# Altium footprint library 1053091202.PCBLIB: 1 footprints
Each footprint in its own frame and in the unit in brackets; x right, y up, seen from the top. Pads: shape width x height; smd on the part's side, far side on the other; paste and mask are expansions set on the pad; w line width, h text height; cw(c..) or ccw(c..) is an arc to the next point about the centre after c.
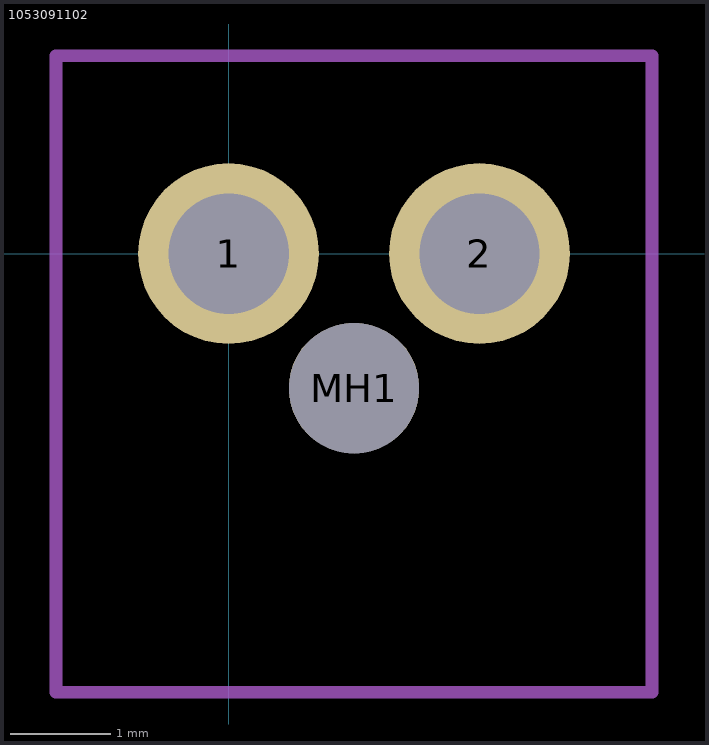
[diagram p0: the footprint, top view; thin cyan lines are the x and y axes]

## 1053091102 [mm]
pads (3):
  round 1.8 hole 1.2: 1(0,0) 2(2.5,0)
  round 1.3 hole 1.3 unplated: MH1(1.25,-1.34)
tDocu:
  lines w0.127: -1.72,-4.37 4.22,-4.37 4.22,1.97 -1.72,1.97 -1.72,-4.37
tPlace:
  lines w0.127: -1.72,-4.37 4.22,-4.37 4.22,1.97 -1.72,1.97
3D body "1053091202.stp": height 10, standoff -3.71, extent -1.7,-4.6 4.24,1.74